# EAGLE library part H1102NL (library WIZnet)
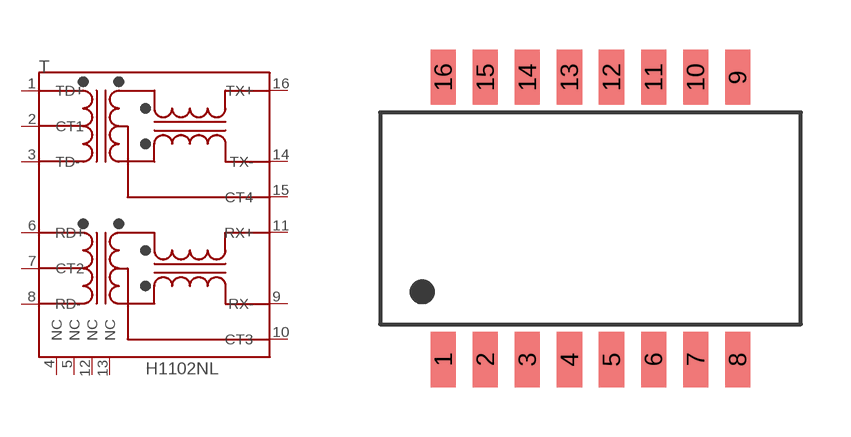
[diagram p7: symbol with the pads of H1102NL; footprint H1102NL]

Designator prefix T

## H1102NL  [H1102NL]
1  TD+  pas
2  CT1  pas
3  TD-  pas
4  NC  pas
5  NC  pas
6  RD+  pas
7  CT2  pas
8  RD-  pas
9  RX-  pas
10  CT3  pas
11  RX+  pas
12  NC  pas
13  NC  pas
14  TX-  pas
15  CT4  pas
16  TX+  pas

## Footprint H1102NL (pad centres in mm)
smd 0.76 x 1.67: 1 -4.445,-4.265; 2 -3.175,-4.265; 3 -1.905,-4.265; 4 -0.635,-4.265; 5 0.635,-4.265; 6 1.905,-4.265; 7 3.175,-4.265; 8 4.445,-4.265; 9 4.445,4.265; 10 3.175,4.265; 11 1.905,4.265; 12 0.635,4.265; 13 -0.635,4.265; 14 -1.905,4.265; 15 -3.175,4.265; 16 -4.445,4.265